# EAGLE library part JAPANINO-SLIM (library my)
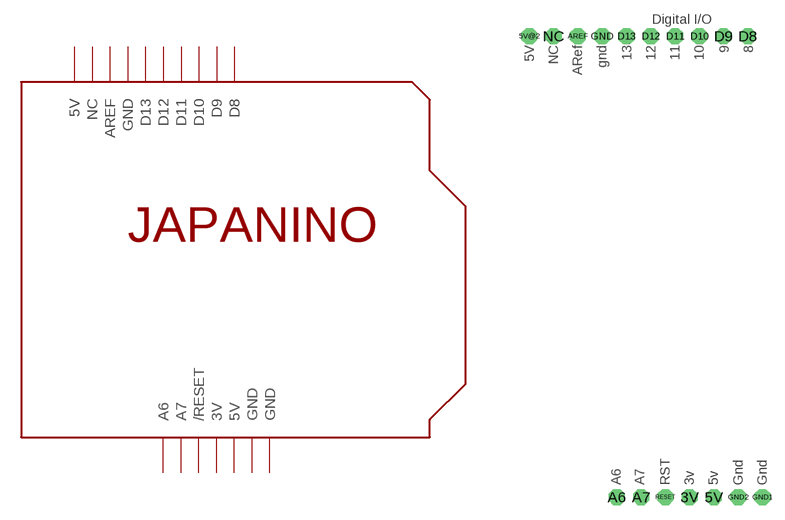
[diagram p11: symbol with the pads of JAPANINO-SLIM; footprint JAPANINO-SLIM]

Designator prefix -

## JAPANINO-SLIM  [JAPANINO-SLIM]
3V  3V  pwr
5V  5V  pwr
5V@2  5V  pwr
A6  A6
A7  A7
AREF  AREF
D8  D8
D9  D9
D10  D10
D11  D11
D12  D12
D13  D13
GND  GND  pwr
GND1  GND  pwr
GND2  GND  pwr
NC  NC  nc
RESET  /RESET

## Footprint JAPANINO-SLIM (pad centres in mm)
drill 1 pad 1.676 octagon: 3V 35.56,2.54; 5V 38.1,2.54; 5V@2 18.796,50.8; A6 27.94,2.54; A7 30.48,2.54; AREF 23.876,50.8; D8 41.656,50.8; D9 39.116,50.8; D10 36.576,50.8; D11 34.036,50.8; D12 31.496,50.8; D13 28.956,50.8; GND 26.416,50.8; GND1 43.18,2.54; GND2 40.64,2.54; NC 21.336,50.8; RESET 33.02,2.54